# Altium footprint library Misc.PcbLib: 7 footprints
Each footprint in its own frame and in the unit in brackets; x right, y up, seen from the top. Pads: shape width x height; smd on the part's side, far side on the other; paste and mask are expansions set on the pad; w line width, h text height; cw(c..) or ccw(c..) is an arc to the next point about the centre after c.
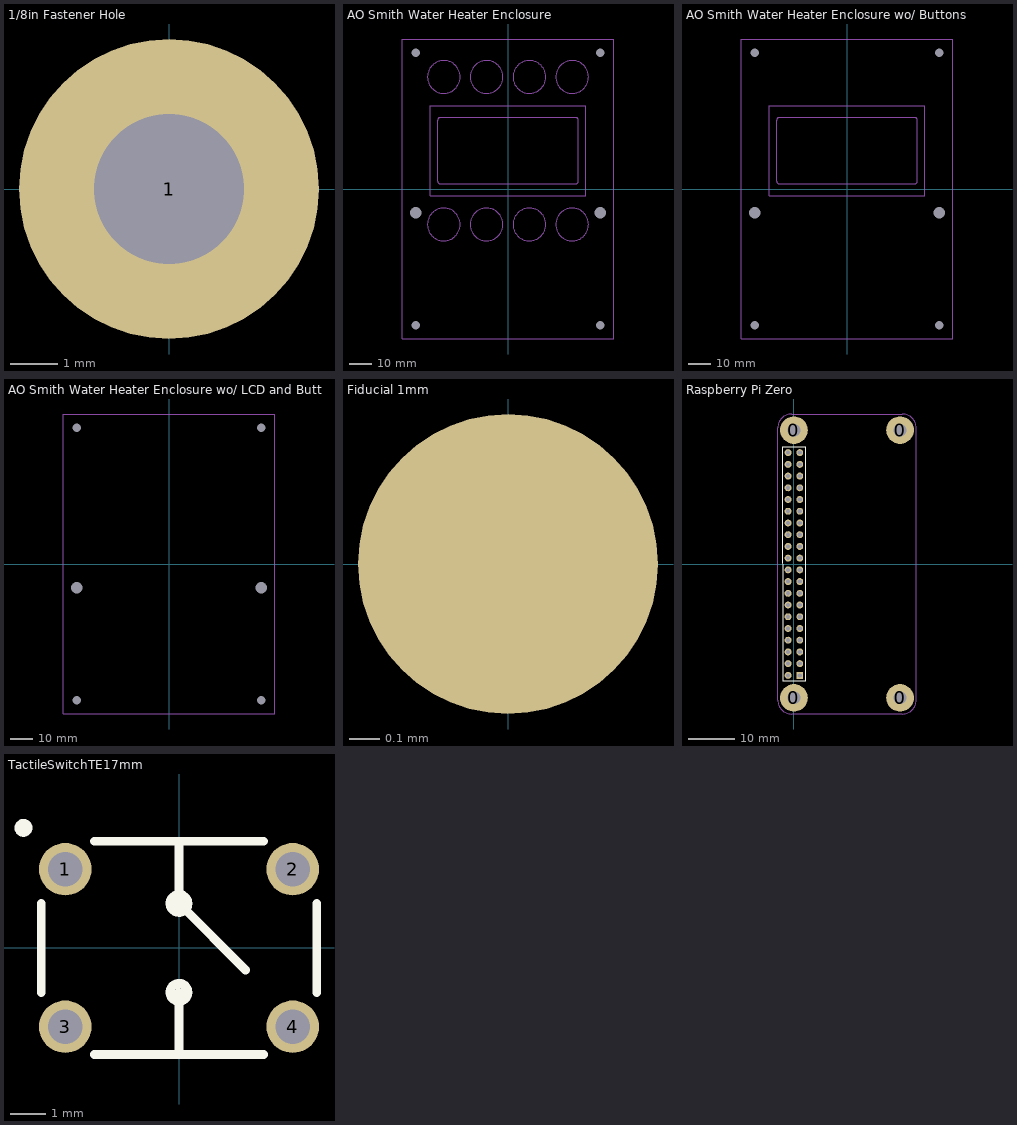
[diagram p0: the footprints below, top view; thin cyan lines are the x and y axes]

## 1/8in Fastener Hole [mm]
pads (1):
  round 6.35 hole 3.175: 1(0,0)

## AO Smith Water Heater Enclosure [mm] "AO Smith's Smart Water Heater Control Panel Enclosure"
pads (6):
  round 0 hole 3.7 unplated: 0(-41,-60.5) 0(-41,60.5) 0(41,-60.5) 0(41,60.5)
  round 0 hole 5 unplated: 0(-41,-10.5) 0(41,-10.5)
Mechanical 1:
  circle w0.254: c-9.5,-15.75 r7.25
  circle w0.254: c9.5,-15.75 r7.25
  circle w0.254: c28.5,-15.75 r7.25
  circle w0.254: c-28.5,-15.75 r7.25
  circle w0.254: c-28.5,49.75 r7.25
  circle w0.254: c-9.5,49.75 r7.25
  circle w0.254: c9.5,49.75 r7.25
  circle w0.254: c28.5,49.75 r7.25
  lines w0.254: -47,-66.6 -47,66.6 47,66.6 47,-66.6 -47,-66.6 ; -34.5,-3 -34.5,37 34.5,37 34.5,-3 -34.5,-3 ; -31.25,3.52 ccw(c-29.98,3.52) -29.98,2.25 29.98,2.25 ccw(c29.98,3.52) 31.25,3.52 31.25,30.48 ccw(c29.98,30.48) 29.98,31.75 -29.98,31.75 ccw(c-29.98,30.48) -31.25,30.48 -31.25,3.52

## AO Smith Water Heater Enclosure wo/ Buttons [mm] "AO Smith's Smart Water Heater Control Panel Enclosure Without Button Markings"
pads (6):
  round 0 hole 3.7 unplated: 0(-41,-60.5) 0(-41,60.5) 0(41,-60.5) 0(41,60.5)
  round 0 hole 5 unplated: 0(-41,-10.5) 0(41,-10.5)
Mechanical 1:
  lines w0.254: -47,-66.6 -47,66.6 47,66.6 47,-66.6 -47,-66.6 ; -34.5,-3 -34.5,37 34.5,37 34.5,-3 -34.5,-3 ; -31.25,3.52 ccw(c-29.98,3.52) -29.98,2.25 29.98,2.25 ccw(c29.98,3.52) 31.25,3.52 31.25,30.48 ccw(c29.98,30.48) 29.98,31.75 -29.98,31.75 ccw(c-29.98,30.48) -31.25,30.48 -31.25,3.52

## AO Smith Water Heater Enclosure wo/ LCD and Buttons [mm] "AO Smith's Smart Water Heater Control Panel Enclosure Without LCD and Button Markings"
pads (6):
  round 0 hole 3.7 unplated: 0(-41,-60.5) 0(-41,60.5) 0(41,-60.5) 0(41,60.5)
  round 0 hole 5 unplated: 0(-41,-10.5) 0(41,-10.5)
Mechanical 1:
  lines w0.254: -47,-66.6 47,-66.6 47,66.6 -47,66.6 -47,-66.6

## Fiducial 1mm [mm] "Fiducial 1mm"
pads (1):
  round 1 smd paste-1 mask+0: ""(0,0)

## Raspberry Pi Zero [mm] "Raspberry Pi Zero Header and Layout"
pads (44):
  round 6 hole 2.75 unplated mask+2: 0(0,-29) 0(0,29) 0(23,-29) 0(23,29)
  rect 1.5x1.5 hole 0.9: 1(1.27,-24.13)
  round 1.5 hole 0.9: 2(-1.27,-24.13) 3(1.27,-21.59) 4(-1.27,-21.59) 5(1.27,-19.05) 6(-1.27,-19.05) 7(1.27,-16.51) 8(-1.27,-16.51) 9(1.27,-13.97) 10(-1.27,-13.97) 11(1.27,-11.43) 12(-1.27,-11.43) 13(1.27,-8.89) 14(-1.27,-8.89) 15(1.27,-6.35) 16(-1.27,-6.35) 17(1.27,-3.81) 18(-1.27,-3.81) 19(1.27,-1.27) 20(-1.27,-1.27) 21(1.27,1.27) 22(-1.27,1.27) 23(1.27,3.81) 24(-1.27,3.81) 25(1.27,6.35) 26(-1.27,6.35) 27(1.27,8.89) 28(-1.27,8.89) 29(1.27,11.43) 30(-1.27,11.43) 31(1.27,13.97) 32(-1.27,13.97) 33(1.27,16.51) 34(-1.27,16.51) 35(1.27,19.05) 36(-1.27,19.05) 37(1.27,21.59) 38(-1.27,21.59) 39(1.27,24.13) 40(-1.27,24.13)
Top Overlay:
  lines w0.254: -2.54,25.4 2.54,25.4 2.54,-25.273 -2.413,-25.273 -2.54,25.4
Mechanical 1:
  lines w0.254: -3.5,-29.5 ccw(c-0.5,-29.5) -0.5,-32.5 23.5,-32.5 ccw(c23.5,-29.5) 26.5,-29.5 26.5,29.5 ccw(c23.5,29.5) 23.5,32.5 -0.5,32.5 ccw(c-0.5,29.5) -3.5,29.5 -3.5,-29.5
  text "SD Card" at 4.416,-31.935 h1.5
  text "HDMI" at 25.937,-23.716 h2
  text "USB" at 25.958,6.823 h1.5
  text "USB" at 26.035,19.58 h1.5

## TactileSwitchTE17mm [mm] "TE 3-1825910-1 17mm Tactile Switch"
height 17
pads (4):
  round 1.5 hole 0.99: 1(-3.25,2.25) 2(3.25,2.25) 3(-3.25,-2.25) 4(3.25,-2.25)
Top Overlay:
  circle w0.254: c0,1.27 r0.254
  circle w0.254: c-4.445,3.429 r0.127
  circle w0.254: c0,-1.27 r0.254
  lines w0.254: -3.937,-1.27 -3.937,1.27 ; -2.413,-3.048 2.413,-3.048 ; -2.413,3.048 2.413,3.048 ; 0,-3.048 0,-1.27 ; 0,2.921 0,1.27 1.905,-0.635 ; 3.937,-1.27 3.937,1.27
3D body "Button_17mm.stp": height 17, standoff -3.51, extent -3.9,-2.995 3.9,2.995